# Altium schematic symbol library 海关全向控制器主控板V3.SCHLIB: 32 symbols
Pins are listed as number, name and electrical type; pins without a type are passive.

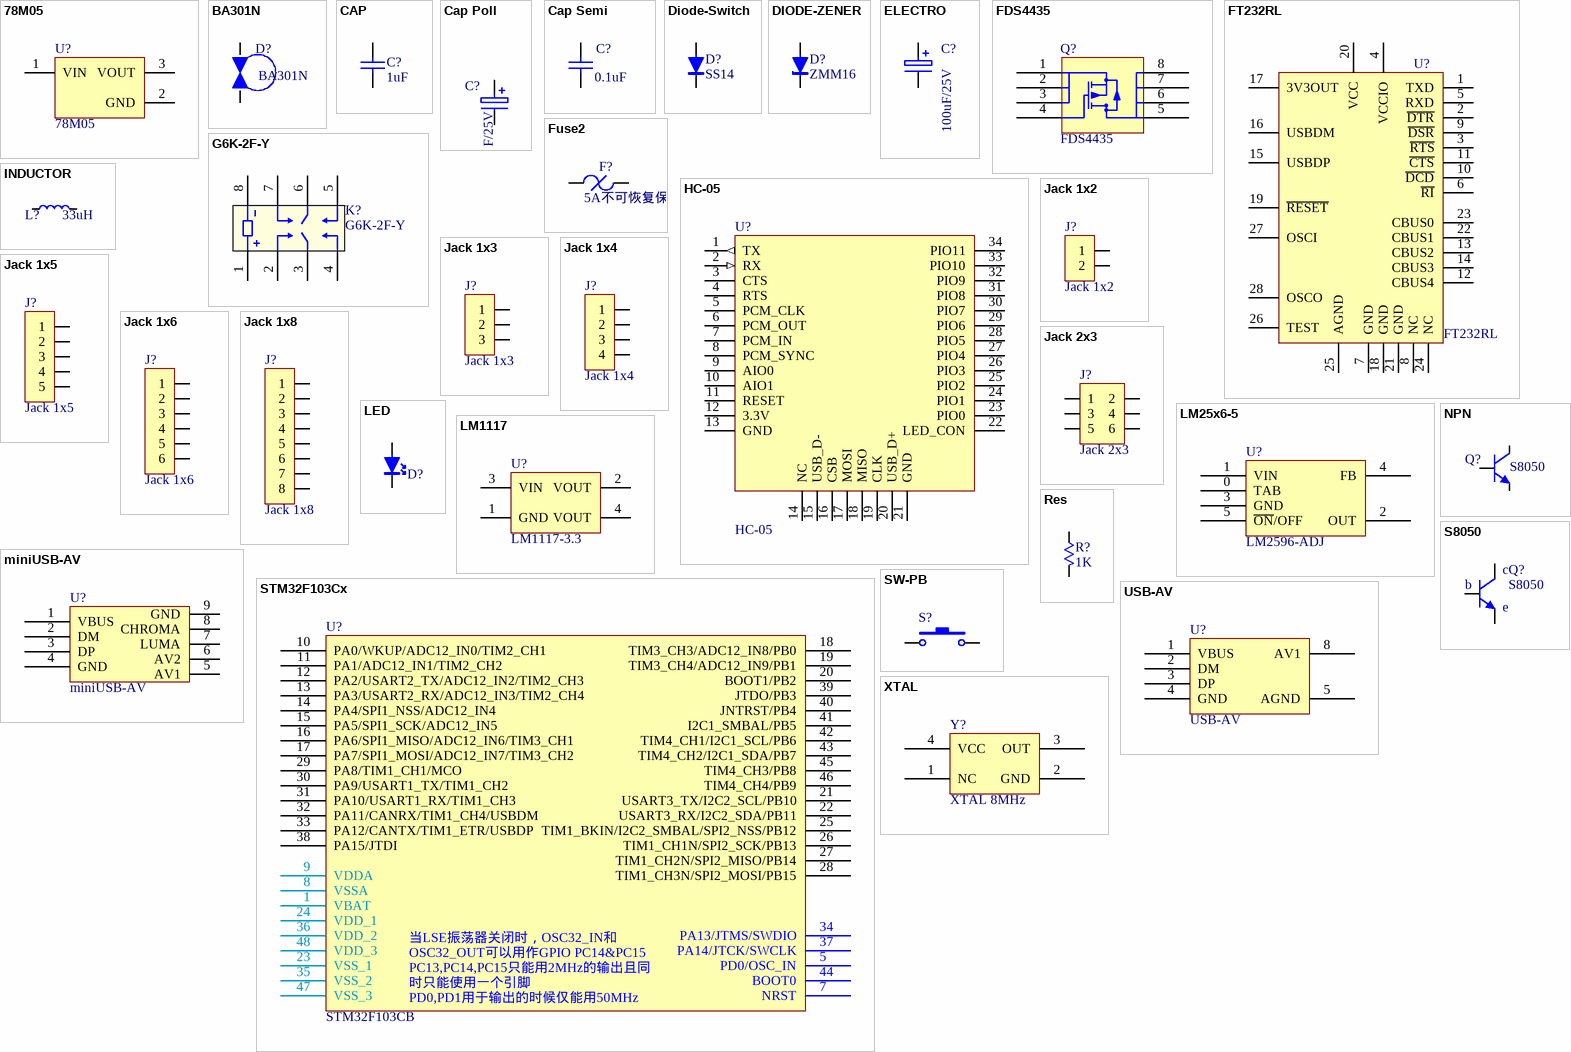
[diagram p0: symbols 78M05 to XTAL]

## 78M05
designator U?
footprint TO-252
pins: 1 VIN, 2 GND, 3 VOUT

## BA301N
designator D?
footprint BA301N
pins: 1, 2

## CAP
designator C?, comment 1uF
CAP; Published: 8-Jun-2000; LatestRevisionDate: 17-Jul-2002; LatestRevisionNote: Re-released for DXP Platform.; PackageReference: RAD-0.3; Publisher: Altium Limited; Value: 1uF
footprint C0603
simulation model CAP (Capacitor)
signal-integrity model Cap
footprint C0603-W
footprint C0805
footprint C0805-W
footprint C1206
footprint C1210
footprint C1812
footprint C1825
footprint C0603-S
pins: 1, 2

## Cap Poll
designator C?, comment 100uF/25V
footprint C10*10.8 (470uF/35V)
footprint C7343
pins: 1, 2

## Cap Semi
designator C?, comment 0.1uF
footprint C0805
footprint C0603
pins: 1, 2

## Diode-Switch
designator D?, comment SS14
Silicon Epitaxial Planar Diodes
footprint SMA
pins: 1 A, 2 K

## DIODE-ZENER
designator D?, comment ZMM16
Small Signal Zener Diodes
footprint SOD-80-S
footprint SOD-80-S
pins: 1 A, 2 K

## ELECTRO
designator C?, comment 100uF/25V
Electrolytic Capacitor
footprint RB.1/.2
footprint RB.15/.3
footprint RB.1/.3
footprint RB.2/.6(160V/47U)
footprint CTANT - D
footprint CT7343-D\E
footprint C7343 (100uF/25V)
pins: 1, 2

## FDS4435
designator Q?
footprint SO8
pins: 1, 2, 3, 4, 5, 6, 7, 8

## FT232RL
designator U?
footprint SSOP-28
pins: 1 TXD, 2 ~{DTR}, 3 ~{RTS}, 4 VCCIO, 5 RXD, 6 ~{RI}, 7 GND, 8 NC, 9 ~{DSR}, 10 ~{DCD}, 11 ~{CTS}, 12 CBUS4, 13 CBUS2, 14 CBUS3, 15 USBDP, 16 USBDM, 17 3V3OUT, 18 GND, 19 ~{RESET}, 20 VCC, 21 GND, 22 CBUS1, 23 CBUS0, 24 NC, 25 AGND, 26 TEST, 27 OSCI, 28 OSCO

## Fuse2
designator F?, comment 5A不可恢复保险
footprint F1808
pins: 1, 2

## G6K-2F-Y
designator K?
footprint G6K-2F-Y
pins: 1, 2, 3, 4, 5, 6, 7, 8

## HC-05
designator U?
footprint HC-05 (HC-05 蓝牙串口通信模块)
pins: 1 TX (out), 2 RX (in), 3 CTS, 4 RTS, 5 PCM_CLK, 6 PCM_OUT, 7 PCM_IN, 8 PCM_SYNC, 9 AIO0, 10 AIO1, 11 RESET, 12 3.3V, 13 GND, 14 NC, 15 USB_D-, 16 CSB, 17 MOSI, 18 MISO, 19 CLK, 20 USB_D+, 21 GND, 22 LED_CON, 23 PIO0, 24 PIO1, 25 PIO2, 26 PIO3, 27 PIO4, 28 PIO5, 29 PIO6, 30 PIO7, 31 PIO8, 32 PIO9, 33 PIO10, 34 PIO11

## INDUCTOR
designator L?, comment 33uH
INDUCTOR; Code_IEC: 1005; Published: 8-Jun-2000; LatestRevisionDate: 17-Jul-2002; LatestRevisionNote: Re-released for DXP Platform.; PackageReference: 0402-A; Publisher: Altium Limited; Code_JEITA: 0402; Value: 33uH
simulation model INDUCTOR (Inductor)
signal-integrity model Inductor
footprint L5050-P
footprint L0805-C
footprint L0603-C
footprint L3030-P
footprint SLF7055 (TDK SMD power inductor)
footprint L6.6*7.1mm (AMPI0630ED)
pins: 1, 2

## Jack 1x2
designator J?
插座
footprint 35363-0260
pins: 1, 2

## Jack 1x3
designator J?
插座
footprint ZH-3AWD (1.5mm，3P，卧插)
pins: 1, 2, 3

## Jack 1x4
designator J?
插座
footprint 35363-0460
pins: 1, 2, 3, 4

## Jack 1x5
designator J?
插座
footprint ZH-5AWD (1.5mm，5P，卧插)
pins: 1, 2, 3, 4, 5

## Jack 1x6
designator J?
插座
footprint ZH-6AWD (1.5mm，6P，卧插)
pins: 1, 2, 3, 4, 5, 6

## Jack 1x8
designator J?
插座
footprint ZH-8AWD (1.5mm，8P，卧插)
pins: 1, 2, 3, 4, 5, 6, 7, 8

## Jack 2x3
designator J?
双排座
footprint Jk2*3-2.0 (Footprint not found)
pins: 1, 2, 3, 4, 5, 6

## LED
designator D?  (value not drawn)
footprint LED0805
footprint LED1206
footprint LED0603
footprint LED0603
pins: 1 A, 2 K

## LM25x6-5
designator U?, comment LM2596-ADJ
LM2596-5;LM2576-5
footprint TO-263-5
pins: 0 TAB, 1 VIN, 2 OUT, 3 GND, 4 FB, 5 ~{ON}/OFF

## LM1117
designator U?, comment LM1117-3.3
800mA Linear Voltage Regulator
footprint SOT-223
pins: 1 GND, 2 VOUT, 3 VIN, 4 VOUT

## miniUSB-AV
designator U?
footprint miniUSB-AV
pins: 1 VBUS, 2 DM, 3 DP, 4 GND, 5 AV1, 6 AV2, 7 LUMA, 8 CHROMA, 9 GND

## NPN
designator Q?, comment S8050
NPN General Purpose Amplifier; Published: 8-Jun-2000; LatestRevisionDate: 15-Jan-2003; LatestRevisionNote: PCB Footprint 'BCY-W3/D4.7' replaced; DatasheetDocument: 1997; PackageDocument: Sep-1998; PackageReference: TO-92A; Publisher: Altium Limited; Code_JEDEC: TO-92A; ComponentLink1Description: Manufacturer Link; ComponentLink1URL: http://www.fairchildsemi.com/; ComponentLink2Description: Datasheet; ComponentLink2URL: http://www.fairchildsemi.com/ds/2N%2F2N3904.pdf
footprint SOT-23
simulation model 2N3904 (NPN)
signal-integrity model 2N3904
pins: 1 B, 2 E, 3 C

## Res
designator R?, comment 1K
Resistor; Published: 8-Jun-2000; LatestRevisionDate: 04-Mar-2005; LatestRevisionNote: PCB Footprint replaced.; PackageReference: J1-0603; Publisher: Altium Limited; Value: 1K
footprint R0603
footprint 3225[1210] (Chip Resistor; Body 3.2 x 2.5 mm (LxW typ))
footprint 5025[2010] (Chip Resistor; Body 5.0 x 2.5 mm (LxW typ))
footprint 6332[2512] (Chip Resistor; Body 6.3 x 3.2 mm (LxW typ))
simulation model RESISTOR (Resistor)
signal-integrity model Res
footprint R0603-S
footprint R0603-S
footprint R0805
footprint R0603-S
footprint R0805-S
pins: 1, 2

## S8050
designator Q?
NPN triode, 0.5A Max
footprint SOT-23
pins: 1 b, 2 e, 3 c

## STM32F103Cx
designator U?, comment STM32F103CB
footprint LQF48
pins: 1 VBAT (power), 2 PC13-TAMPER-RTC hidden, 3 PC14-OSC32_IN hidden, 4 PC15-OSC32_OUT hidden, 5 PD0/OSC_IN, 6 PD1/OSC_OUT hidden, 7 NRST, 8 VSSA (power), 9 VDDA (power), 10 PA0/WKUP/ADC12_IN0/TIM2_CH1, 11 PA1/ADC12_IN1/TIM2_CH2, 12 PA2/USART2_TX/ADC12_IN2/TIM2_CH3, 13 PA3/USART2_RX/ADC12_IN3/TIM2_CH4, 14 PA4/SPI1_NSS/ADC12_IN4, 15 PA5/SPI1_SCK/ADC12_IN5, 16 PA6/SPI1_MISO/ADC12_IN6/TIM3_CH1, 17 PA7/SPI1_MOSI/ADC12_IN7/TIM3_CH2, 18 TIM3_CH3/ADC12_IN8/PB0, 19 TIM3_CH4/ADC12_IN9/PB1, 20 BOOT1/PB2, 21 USART3_TX/I2C2_SCL/PB10, 22 USART3_RX/I2C2_SDA/PB11, 23 VSS_1 (power), 24 VDD_1 (power), 25 TIM1_BKIN/I2C2_SMBAL/SPI2_NSS/PB12, 26 TIM1_CH1N/SPI2_SCK/PB13, 27 TIM1_CH2N/SPI2_MISO/PB14, 28 TIM1_CH3N/SPI2_MOSI/PB15, 29 PA8/TIM1_CH1/MCO, 30 PA9/USART1_TX/TIM1_CH2, 31 PA10/USART1_RX/TIM1_CH3, 32 PA11/CANRX/TIM1_CH4/USBDM, 33 PA12/CANTX/TIM1_ETR/USBDP, 34 PA13/JTMS/SWDIO, 35 VSS_2 (power), 36 VDD_2 (power), 37 PA14/JTCK/SWCLK, 38 PA15/JTDI, 39 JTDO/PB3, 40 JNTRST/PB4, 41 I2C1_SMBAL/PB5, 42 TIM4_CH1/I2C1_SCL/PB6, 43 TIM4_CH2/I2C1_SDA/PB7, 44 BOOT0, 45 TIM4_CH3/PB8, 46 TIM4_CH4/PB9, 47 VSS_3 (power), 48 VDD_3 (power)
text: OSC32_IN和OSC32_OUT可以用作通用IO PC14和PC15; PC13,PC14,PC15只能用于2MHz的输出模式且同时只能使用一个引脚; 当LSE振荡器关闭时，OSC32_IN和OSC32_OUT可以用作GPIO PC14&PC15 / PC13,PC14,PC15只能用2MHz的输出且同时只能使用一个引脚 / PD0,PD1用于输出的时候仅能用50MHz

## SW-PB
designator S?  (value not drawn)
Switch; Published: 24-Mar-1999; LatestRevisionDate: 17-Jul-2002; LatestRevisionNote: Re-released for DXP Platform.; PackageReference: SPST-2; Publisher: Altium Limited; PackageDescription: Switch; 2 Leads
footprint ZH-2AWD (1.5mm，2P，卧插)
pins: 1, 2

## USB-AV
designator U?
footprint USB-AV
pins: 1 VBUS, 2 DM, 3 DP, 4 GND, 5 AGND, 8 AV1

## XTAL
designator Y?, comment XTAL 8MHz
footprint SO-CRASTAL
footprint SO-CRASTAL - 5032
footprint XTAL5032
pins: 1 NC, 2 GND, 3 OUT, 4 VCC